# EAGLE library part 7-SEG-LED (library JoesCustom)
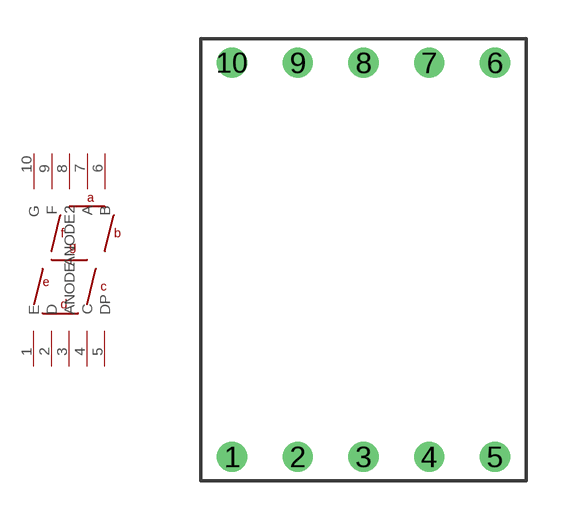
[diagram p1: symbol with the pads of 7-SEG-LED; footprint 7-SEG-LED]

Designator prefix -

## 7-SEG-LED  [7-SEG-LED]
1  E
2  D
3  ANODE
4  C
5  DP
6  B
7  A
8  ANODE2
9  F
10  G

## Footprint 7-SEG-LED (pad centres in mm)
drill 0.66 round: 1 -5.08,-7.62; 2 -2.54,-7.62; 3 0,-7.62; 4 2.54,-7.62; 5 5.08,-7.62; 6 5.08,7.62; 7 2.54,7.62; 8 0,7.62; 9 -2.54,7.62; 10 -5.08,7.62